# Altium footprint library 移位寄存器.PcbLib: 1 footprints
Each footprint in its own frame and in the unit in brackets; x right, y up, seen from the top. Pads: shape width x height; smd on the part's side, far side on the other; paste and mask are expansions set on the pad; w line width, h text height; cw(c..) or ccw(c..) is an arc to the next point about the centre after c.
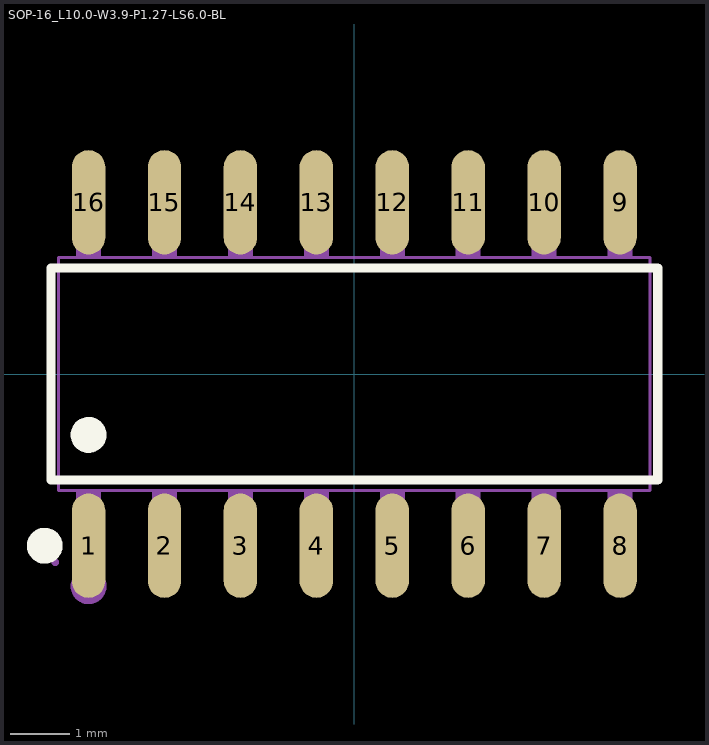
[diagram p0: the footprint, top view; thin cyan lines are the x and y axes]

## SOP-16_L10.0-W3.9-P1.27-LS6.0-BL [mm]
pads (16):
  oval 0.56x1.745 smd: 1(-4.445,-2.872) 2(-3.175,-2.872) 3(-1.905,-2.872) 4(-0.635,-2.872) 5(0.635,-2.872) 6(1.905,-2.872) 7(3.175,-2.872) 8(4.445,-2.872) 9(4.445,2.872) 10(3.175,2.872) 11(1.905,2.872) 12(0.635,2.872) 13(-0.635,2.872) 14(-1.905,2.872) 15(-3.175,2.872) 16(-4.445,2.872)
Top Overlay:
  circle w0.3: c-5.177,-2.872 r0.15
  circle w0.3: c-4.445,-1.019 r0.15
  lines w0.152: -5.076,-1.771 5.076,-1.771 5.076,1.771 -5.076,1.771 -5.076,-1.771
Mechanical 6:
  circle w0.3: c-4.445,-3.55 r0.15
Mechanical 15:
  drawing of 37 lines, arcs and shapes, not listed